# EAGLE library part IXYS_LAA108P (library ssr)
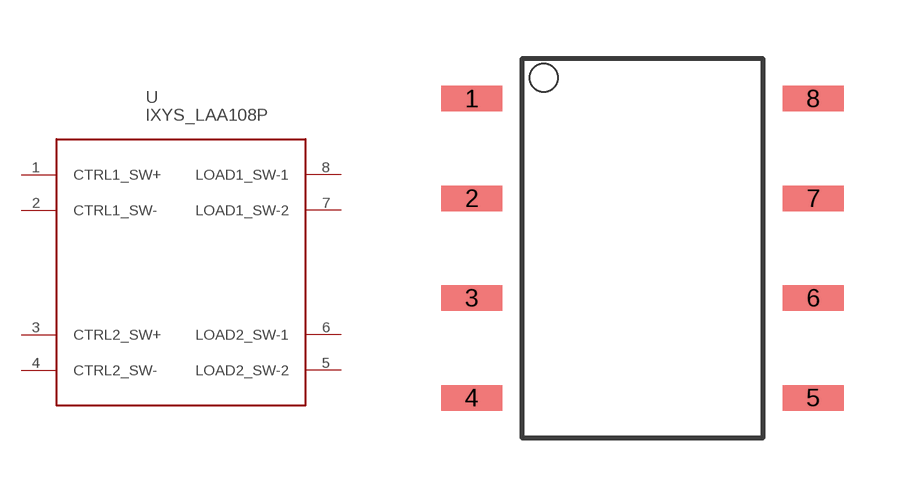
[diagram p0: symbol with the pads of SO8; footprint SO8]

Designator prefix U

## IXYS_LAA108PSO8  [SO8]
1  CTRL1_SW+
2  CTRL1_SW-
3  CTRL2_SW+
4  CTRL2_SW-
5  LOAD2_SW-2
6  LOAD2_SW-1
7  LOAD1_SW-2
8  LOAD1_SW-1

## Footprint SO8 (pad centres in mm)
smd 1.55 x 0.65: 1 -4.35,3.81; 2 -4.35,1.27; 3 -4.35,-1.27; 4 -4.35,-3.81; 5 4.35,-3.81; 6 4.35,-1.27; 7 4.35,1.27; 8 4.35,3.81